# Altium footprint library thuvien_ICtester.PcbLib: 30 footprints (part 1 of 2)
Each footprint in its own frame and in the unit in brackets; x right, y up, seen from the top. Pads: shape width x height; smd on the part's side, far side on the other; paste and mask are expansions set on the pad; w line width, h text height; cw(c..) or ccw(c..) is an arc to the next point about the centre after c.
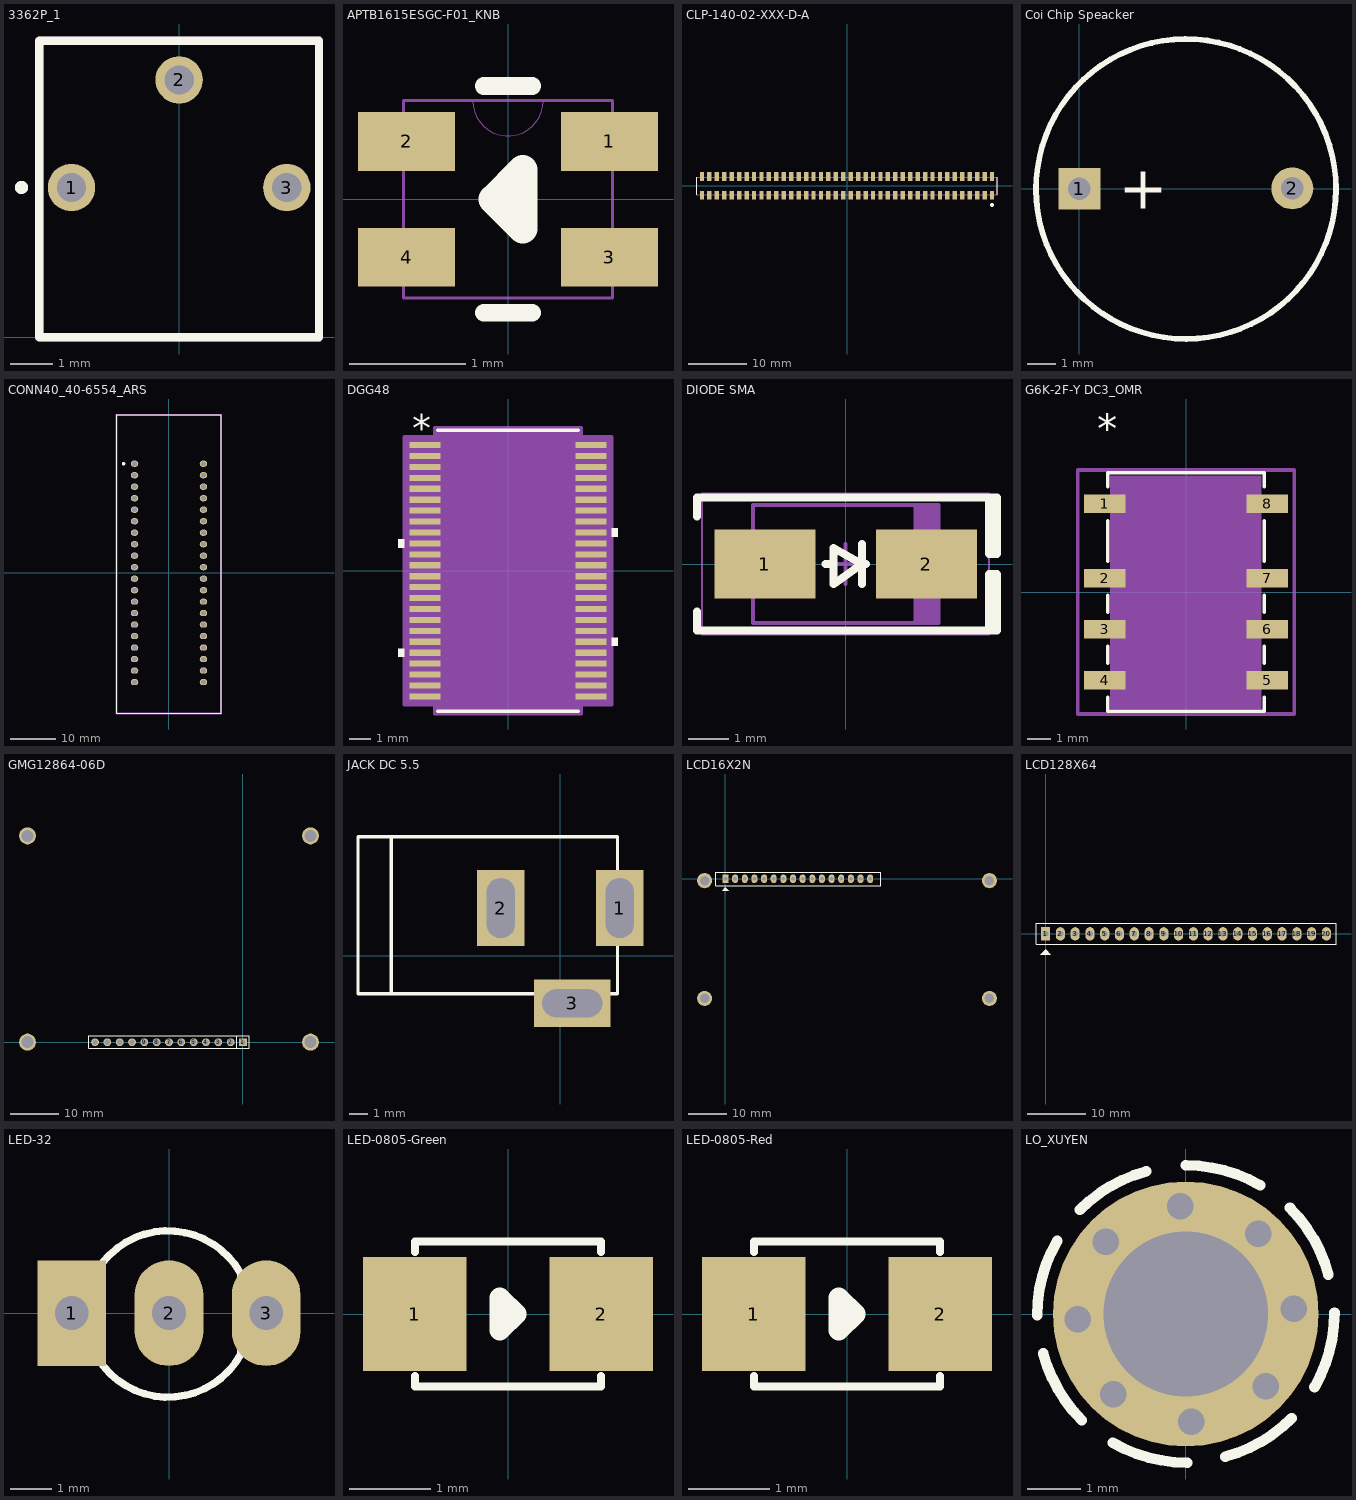
[diagram p0: the footprints below, top view; thin cyan lines are the x and y axes]

## 3362P_1 [mm]
pads (3):
  round 1.12 hole 0.69: 1(-2.54,3.53) 2(0,6.07) 3(2.54,3.53)
Top Overlay:
  circle w0.2: c-3.722,3.532 r0.057
  lines w0.2: -3.3,0 3.3,0 3.3,6.99 -3.3,6.99 -3.3,0
Mechanical 13:
  lines w0.2: -3.3,0 -3.3,6.99 3.3,6.99 3.3,0 -3.3,0
3D body "3362P-1-103.stp": height 4.57, standoff -4.93, extent -3.3,-0.03 3.3,6.96

## APTB1615ESGC-F01_KNB [mil]
pads (4):
  rect 33x20 smd paste-10 mask+0: 1(34.45,19.68) 2(-34.45,19.68) 3(34.45,-19.68) 4(-34.45,-19.68)
Top Overlay:
  lines w6: -8.26,-38.5 8.26,-38.5 ; -8.26,38.5 8.26,38.5
  lines w10: -5,0 5,10 5,-10 -5,0
Mechanical 13:
  lines w0: -12,33.5 ccw(c0,33.5) 12,33.5
  lines w1: -35.5,-33.5 35.5,-33.5 35.5,33.5 -35.5,33.5 -35.5,-33.5
3D body "APTB1615ESGC-F01_KNB.step": height 35.12, standoff 0, extent -35.51,-33.5 35.51,33.5

## CLP-140-02-XXX-D-A [mm]
pads (80):
  rect 0.74x1.47 smd: 1(24.765,-1.615) 2(24.765,1.615) 3(23.495,-1.615) 4(23.495,1.615) 5(22.225,-1.615) 6(22.225,1.615) 7(20.955,-1.615) 8(20.955,1.615) 9(19.685,-1.615) 10(19.685,1.615) 11(18.415,-1.615) 12(18.415,1.615) 13(17.145,-1.615) 14(17.145,1.615) 15(15.875,-1.615) 16(15.875,1.615) 17(14.605,-1.615) 18(14.605,1.615) 19(13.335,-1.615) 20(13.335,1.615) 21(12.065,-1.615) 22(12.065,1.615) 23(10.795,-1.615) 24(10.795,1.615) 25(9.525,-1.615) 26(9.525,1.615) 27(8.255,-1.615) 28(8.255,1.615) 29(6.985,-1.615) 30(6.985,1.615) 31(5.715,-1.615) 32(5.715,1.615) 33(4.445,-1.615) 34(4.445,1.615) 35(3.175,-1.615) 36(3.175,1.615) 37(1.905,-1.615) 38(1.905,1.615) 39(0.635,-1.615) 40(0.635,1.615) 41(-0.635,-1.615) 42(-0.635,1.615) 43(-1.905,-1.615) 44(-1.905,1.615) 45(-3.175,-1.615) 46(-3.175,1.615) 47(-4.445,-1.615) 48(-4.445,1.615) 49(-5.715,-1.615) 50(-5.715,1.615) 51(-6.985,-1.615) 52(-6.985,1.615) 53(-8.255,-1.615) 54(-8.255,1.615) 55(-9.525,-1.615) 56(-9.525,1.615) 57(-10.795,-1.615) 58(-10.795,1.615) 59(-12.065,-1.615) 60(-12.065,1.615) 61(-13.335,-1.615) 62(-13.335,1.615) 63(-14.605,-1.615) 64(-14.605,1.615) 65(-15.875,-1.615) 66(-15.875,1.615) 67(-17.145,-1.615) 68(-17.145,1.615) 69(-18.415,-1.615) 70(-18.415,1.615) 71(-19.685,-1.615) 72(-19.685,1.615) 73(-20.955,-1.615) 74(-20.955,1.615) 75(-22.225,-1.615) 76(-22.225,1.615) 77(-23.495,-1.615) 78(-23.495,1.615) 79(-24.765,-1.615) 80(-24.765,1.615)
Top Overlay:
  circle w0.381: c24.772,-3.252 r0.127
  lines w0.1: -25.615,-1.525 -25.615,1.525 ; 25.615,-1.525 25.615,1.525
Mechanical 13:
  lines w0.2: -25.615,-1.525 25.615,-1.525 25.615,1.525 -25.615,1.525 -25.615,-1.525
3D body "CLP-140-02-G-D-A.stp": height 2.47, standoff -1.7, extent -25.615,-2.276 25.615,2.276

## Coi Chip Speacker [mm]
pads (2):
  rect 1.5x1.5 hole 0.8: 1(0,0)
  round 1.5 hole 0.8: 2(7.62,0.013)
Top Overlay:
  lines w0.203: 7.724,3.67 ccw(c3.816,-0.008) 7.76,3.632
  text "+" at 1.41,-0.711 h1.52
3D body "User Library-Buzzer WST-1203UX.step": height 4.5, standoff -9.65, extent -2.215,-6 13.239,6

## CONN40_40-6554_ARS [mil]
pads (40):
  oval 65x54 / inner round 60 / far side round 54 hole 42 slot 34 at 90 deg paste-27 mask+0: 1(-300,950) 2(300,950) 3(-300,850) 4(300,850) 5(-300,750) 6(300,750) 7(-300,650) 8(300,650) 9(-300,550) 10(300,550) 11(-300,450) 12(300,450) 13(-300,350) 14(300,350) 15(-300,250) 16(300,250) 17(-300,150) 18(300,150) 19(-300,50) 20(300,50) 21(-300,-50) 22(300,-50) 23(-300,-150) 24(300,-150) 25(-300,-250) 26(300,-250) 27(-300,-350) 28(300,-350) 29(-300,-450) 30(300,-450) 31(-300,-550) 32(300,-550) 33(-300,-650) 34(300,-650) 35(-300,-750) 36(300,-750) 37(-300,-850) 38(300,-850) 39(-300,-950) 40(300,-950)
Top Overlay:
  circle w20: c-395,950 r5
  lines w6: -455,-1222.52 -455,1377.48 455,1377.48 455,-1222.52 -455,-1222.52
Mechanical 13:
  lines w1: -450,-1217.52 -450,1372.48 450,1372.48 450,-1217.52 -450,-1217.52
Mechanical 15:
  lines w6: -460,-1227.52 -460,1382.48 460,1382.48 460,-1227.52 -460,-1227.52
3D body: height 472.44, standoff 19.68, extent -451.77,-1218.5 454.72,1372.05

## DGG48 [mil]
pads (48):
  rect 55.28x11 smd paste+0 mask+0: 1(-149.64,226.38) 2(-149.64,206.69) 3(-149.64,187.01) 4(-149.64,167.32) 5(-149.64,147.64) 6(-149.64,127.95) 7(-149.64,108.27) 8(-149.64,88.58) 9(-149.64,68.9) 10(-149.64,49.21) 11(-149.64,29.53) 12(-149.64,9.84) 13(-149.64,-9.84) 14(-149.64,-29.53) 15(-149.64,-49.21) 16(-149.64,-68.9) 17(-149.64,-88.58) 18(-149.64,-108.27) 19(-149.64,-127.95) 20(-149.64,-147.64) 21(-149.64,-167.32) 22(-149.64,-187.01) 23(-149.64,-206.69) 24(-149.64,-226.38) 25(149.64,-226.38) 26(149.64,-206.69) 27(149.64,-187.01) 28(149.64,-167.32) 29(149.64,-147.64) 30(149.64,-127.95) 31(149.64,-108.27) 32(149.64,-88.58) 33(149.64,-68.9) 34(149.64,-49.21) 35(149.64,-29.53) 36(149.64,-9.84) 37(149.64,9.84) 38(149.64,29.53) 39(149.64,49.21) 40(149.64,68.9) 41(149.64,88.58) 42(149.64,108.27) 43(149.64,127.95) 44(149.64,147.64) 45(149.64,167.32) 46(149.64,187.01) 47(149.64,206.69) 48(149.64,226.38)
Top Overlay:
  region: -187.28,56.71 -197.28,56.71 -197.28,41.71 -187.28,41.71
  region: -187.28,-140.14 -197.28,-140.14 -197.28,-155.14 -187.28,-155.14
  region: 187.28,-120.45 197.28,-120.45 197.28,-135.45 187.28,-135.45
  region: 187.28,76.4 197.28,76.4 197.28,61.4 187.28,61.4
  lines w6: -127,-253 127,-253 ; -127,253 127,253
  text "*" at -172.14,232.38 h50
Mechanical 13:
  drawing of 197 lines, arcs and shapes, not listed
  text "*" at -119.5,195 h50
Mechanical 15:
  region: -132,-241.88 -187.28,-241.88 -187.28,241.88 -132,241.88 -132,258 132,258 132,241.88 187.28,241.88 187.28,-241.88 132,-241.88 132,-258 -132,-258
  lines w6: -187.28,-241.88 -187.28,241.88 -132,241.88 -132,258 132,258 132,241.88 187.28,241.88 187.28,-241.88 132,-241.88 132,-258 -132,-258 -132,-241.88 -187.28,-241.88
3D body "DGG48.step": height 47.09, standoff 0, extent -163.5,-247.99 163.5,247.99

## DIODE SMA [mm] "SMA"
height 2.4
pads (2):
  rect 2.5x1.7 smd: 1(-2,0) 2(2,0)
Top Overlay:
  lines w0.2: -3.683,-1.175 -3.683,-1.651 3.75,-1.651 3.75,-0.254 3.556,-0.254 3.556,-1.651 ; -3.683,1.175 -3.683,1.651 3.75,1.651 3.75,0.254 3.556,0.254 3.556,1.651 ; -0.5,0 -0.3,0 ; 0.4,-0.5 0.4,0.5 ; 0.5,0 0.4,0 ; 0.4,0 -0.3,0.4 -0.3,-0.5 0.4,0
Mechanical 13:
  rectangle: 1.681,-1.46 2.3,1.46
  lines w0.1: -2.3,-1.46 -2.3,1.46 2.3,1.46 2.3,-1.46 -2.3,-1.46
Mechanical 15:
  lines w0.05: -3.556,-1.75 -3.556,1.75 3.556,1.75 3.556,-1.75 -3.556,-1.75
  lines w0.1: -0.5,0 0.5,0 ; 0,-0.5 0,0.5
3D body "SMA.STEP": height 2.4, standoff 0, extent -2.6,-1.375 2.6,1.375

## G6K-2F-Y DC3_OMR [mm]
pads (8):
  rect 1.8x0.8 smd paste+0 mask+0: 1(-3.5,3.8) 2(-3.5,0.6) 3(-3.5,-1.6) 4(-3.5,-3.8) 5(3.5,-3.8) 6(3.5,-1.6) 7(3.5,0.6) 8(3.5,3.8)
Top Overlay:
  lines w0.152: -3.377,-4.533 -3.377,-5.127 3.377,-5.127 3.377,-4.533 ; -3.377,-3.067 -3.377,-2.333 ; -3.377,-0.867 -3.377,-0.133 ; -3.377,1.333 -3.377,3.067 ; -3.377,4.533 -3.377,5.127 3.377,5.127 3.377,4.533 ; 3.377,-3.067 3.377,-2.333 ; 3.377,-0.867 3.377,-0.133 ; 3.377,1.333 3.377,3.067
  text "*" at -3.818,6.397 h1.27
Mechanical 13:
  lines w0: -0.305,5 ccw(c0,5) 0.305,5
  lines w0.025: -3.25,-5 -3.25,5 3.25,5 3.25,-5 -3.25,-5
  text "*" at -3.818,3.997 h1.27
Mechanical 15:
  region: 3.25,-5 -3.25,-5 -3.25,5 3.25,5
  lines w0.152: -4.654,-5.254 4.654,-5.254 4.654,5.254 -4.654,5.254 -4.654,-5.254
3D body: height 3.81, standoff 0, extent -2.615,-5.025 2.625,4.975

## GMG12864-06D [mm] "9 pins, 1 row, straight, gold plating"
height 8.54
pads (17):
  rect 1.6x1.6 hole 1.1: 1(0,0)
  round 1.6 hole 1.1: 2(-2.54,0) 3(-5.08,0) 4(-7.62,0) 5(-10.16,0) 6(-12.7,0) 7(-15.24,0) 8(-17.78,0) 9(-20.32,0) 10(-22.86,0) 11(-25.4,0) 12(-27.94,0) 13(-30.48,0)
  round 3.5 hole 2.5: ""(-44.39,0) ""(-44.39,42.5) ""(13.91,0) ""(13.91,42.5)
Top Overlay:
  lines w0.2: -1.27,-1.27 -1.27,1.27 ; -31.795,-1.27 -31.795,1.27 1.27,1.27 1.27,-1.27 -31.795,-1.27
3D body "User Library-GMG12864-06D.STEP": height 9.61, standoff 2.31, extent -46.18,-1.625 15.62,44.175

## JACK DC 5.5 [mil] "Jac DC input"
height 200
pads (3):
  rect 100x160 hole 59.06 slot 125.98 at 90 deg: 1(125,100) 2(-125,100)
  rect 160x100 hole 59.06 slot 125.98 at 0 deg: 3(25,-100)
Top Overlay:
  lines w7: -355,-80 -355,250 ; -425,-80 120,-80 120,250 -425,250 -425,-80
3D body "SW3dPS-dc range - dc connector[4840.2201].STEP": height 433.67, standoff -137.2, extent -410.35,-105.12 134,269.12

## LCD16X2N [mil] "LCD dipslay 16x2, 16 pin"
height 400
pads (20):
  rect 62x90 hole 39: 1(0,0)
  oval 62x90 hole 39: 2(100,0) 3(200,0) 4(300,0) 5(400,0) 6(500,0) 7(600,0) 8(700,0) 9(800,0) 10(900,0) 11(1000,0) 12(1100,0) 13(1200,0) 14(1300,0) 15(1400,0) 16(1500,0)
  round 157.48 hole 98.43: ""(-216.54,-1240.16) ""(-216.54,-19.68) ""(2736.22,-1240.16) ""(2736.22,-19.68)
Top Overlay:
  region: 0,-90 -35,-125 35,-125
  lines w7: -100,-71 1608,-71 1608,70 -100,70 -100,-71
3D body "lcd16.STEP": height 764, standoff 244, extent -319.64,-1353.49 2849.65,83.51
3D body "jp16.stp": height 468.11, standoff -20.08, extent -48.03,-48.43 1548.03,50
3D body "socket16.stp": height 276.19, standoff -117.51, extent -50,-44.99 1550,55.01

## LCD128X64 [mil] "LCD Graphic 128x64, 20 pin"
height 400
pads (20):
  rect 62x90 hole 39: 1(0,0)
  oval 62x90 hole 39: 2(100,0) 3(200,0) 4(300,0) 5(400,0) 6(500,0) 7(600,0) 8(700,0) 9(800,0) 10(900,0) 11(1000,0) 12(1100,0) 13(1200,0) 14(1300,0) 15(1400,0) 16(1500,0) 17(1600,0) 18(1700,0) 19(1800,0) 20(1900,0)
Top Overlay:
  region: 0,-105 -35,-140 35,-140
  lines w7: -65,-71 1965,-71 1965,70 -65,70 -65,-71
3D body "User Library-GRAPHIC LCD WG12864B.STEP": height 475.59, standoff -130.71, extent -612.8,-2069.98 2536.8,56

## LED-32 [mil] "LED 3 PIN, 3ly Two colour"
height 300
pads (3):
  rect 65x100 hole 32: 1(-92,0)
  oval 65x100 hole 32: 2(0,0) 3(92,0)
Top Overlay:
  lines w7: 68,-39 68,37
  lines w7.01: 67.87,37.48 ccw(c-0.92,-0.84) 67.97,-38.98

## LED-0805-Green [mil]
pads (2):
  rect 50x55 smd: 1(-45,0) 2(45,0)
Top Overlay:
  lines w4: -45,-30 -45,-35 45,-35 45,-30 ; -45,30 -45,35 45,35 45,30
  lines w10: -3.94,-7.87 -3.94,7.87 3.94,0 -3.94,-7.87
3D body "User Library-led_0805-Green.step": height 43.31, standoff 0, extent -39.76,-24.6 39.77,24.61

## LED-0805-Red [mil]
pads (2):
  rect 50x55 smd: 1(-45,0) 2(45,0)
Top Overlay:
  lines w4: -45,-30 -45,-35 45,-35 45,-30 ; -45,30 -45,35 45,35 45,30
  lines w10: -3.94,-7.87 -3.94,7.87 3.94,0 -3.94,-7.87
3D body "User Library-led_0805-red.step": height 43.31, standoff 0, extent -39.75,-24.6 39.77,24.62

## LO_XUYEN [mm]
pads (9):
  round 0.5 hole 0.5: ""(-2.032,-0.102) ""(-1.509,1.365) ""(-1.365,-1.509) ""(-0.102,2.032) ""(0.102,-2.032) ""(1.365,1.509) ""(1.509,-1.365) ""(2.032,0.102)
  round 5 hole 3.1: ""(0,0)
Top Overlay:
  lines w0.2: -2.8,-0.025 cw(c0,-0.025) -2.425,1.375 ; -2.687,-0.743 ccw(c0.018,-0.018) -1.962,-1.998 ; -1.998,1.962 cw(c-0.018,-0.018) -0.743,2.687 ; -1.375,-2.425 ccw(c0.025,0) 0.025,-2.8 ; 0,2.8 cw(c0,0) 1.4,2.425 ; 0.743,-2.687 ccw(c0.018,0.018) 1.998,-1.962 ; 1.962,1.998 cw(c-0.018,0.018) 2.687,0.743 ; 2.425,-1.375 ccw(c0,0.025) 2.8,0.025
Bottom Overlay:
  lines w0.2: -2.8,-0.025 cw(c0,-0.025) -2.425,1.375 ; -2.687,-0.743 ccw(c0.018,-0.018) -1.962,-1.998 ; -1.998,1.962 cw(c-0.018,-0.018) -0.743,2.687 ; -1.375,-2.425 ccw(c0.025,0) 0.025,-2.8 ; 0,2.8 cw(c0,0) 1.4,2.425 ; 0.743,-2.687 ccw(c0.018,0.018) 1.998,-1.962 ; 1.962,1.998 cw(c-0.018,0.018) 2.687,0.743 ; 2.425,-1.375 ccw(c0,0.025) 2.8,0.025